# Altium schematic symbol library AMB3B-8MHz.Schlib: 1 symbol
Pins are listed as number, name and electrical type; pins without a type are passive.

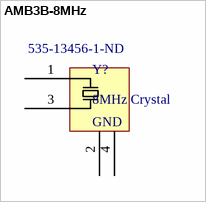
[diagram p0: symbol AMB3B-8MHz]

## AMB3B-8MHz
designator Y?, comment 8MHz Crystal  Supplier Part Number 1: 535-13456-1-ND
8MHz Abracom 4-pin crystal.; Supplier 1: Digi-Key
footprint OSCSC500X320X110-4N (ABM3B-8.000MHZ-10-D-1-G-T Abracon 8MHz crystal)
pins: 1 IN, 2 5, 3 IN, 4
text: GND